# EAGLE library part AVR-ISP6 (library Transistorlabs)
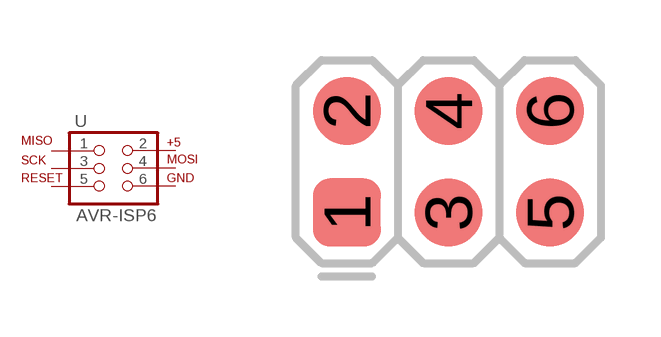
[diagram p1: symbol with the pads of .1"-2X3-PAD-SONLY; footprint .1"-2X3-PAD-SONLY]

Designator prefix -

## AVR-ISP6  [.1"-2X3-PAD-SONLY]
1  1  pas
2  2  pas
3  3  pas
4  4  pas
5  5  pas
6  6  pas

## Footprint .1"-2X3-PAD-SONLY (pad centres in mm)
smd 1.7 x 1.7: 1 0.01,0.025; 2 0.01,2.565; 3 2.55,0.025; 4 2.55,2.565; 5 5.09,0.025; 6 5.09,2.565